# Altium integrated library MTSW-106-07-L-S-170.IntLib: 1 symbol
Pins are listed as number, name and electrical type; pins without a type are passive.

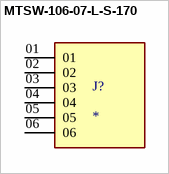
[diagram p0: symbol MTSW-106-07-L-S-170]

## MTSW-106-07-L-S-170
designator J?
MP: MTSW-106-07-L-S-170; Value: *; Availability: Unavailable; Package: None; Price: None
footprint SAMTEC_MTSW-106-07-L-S-170
pins: 01, 02, 03, 04, 05, 06